# Altium schematic symbol library DM1097_SchLib.SCHLIB: 93 symbols (part 3 of 4)
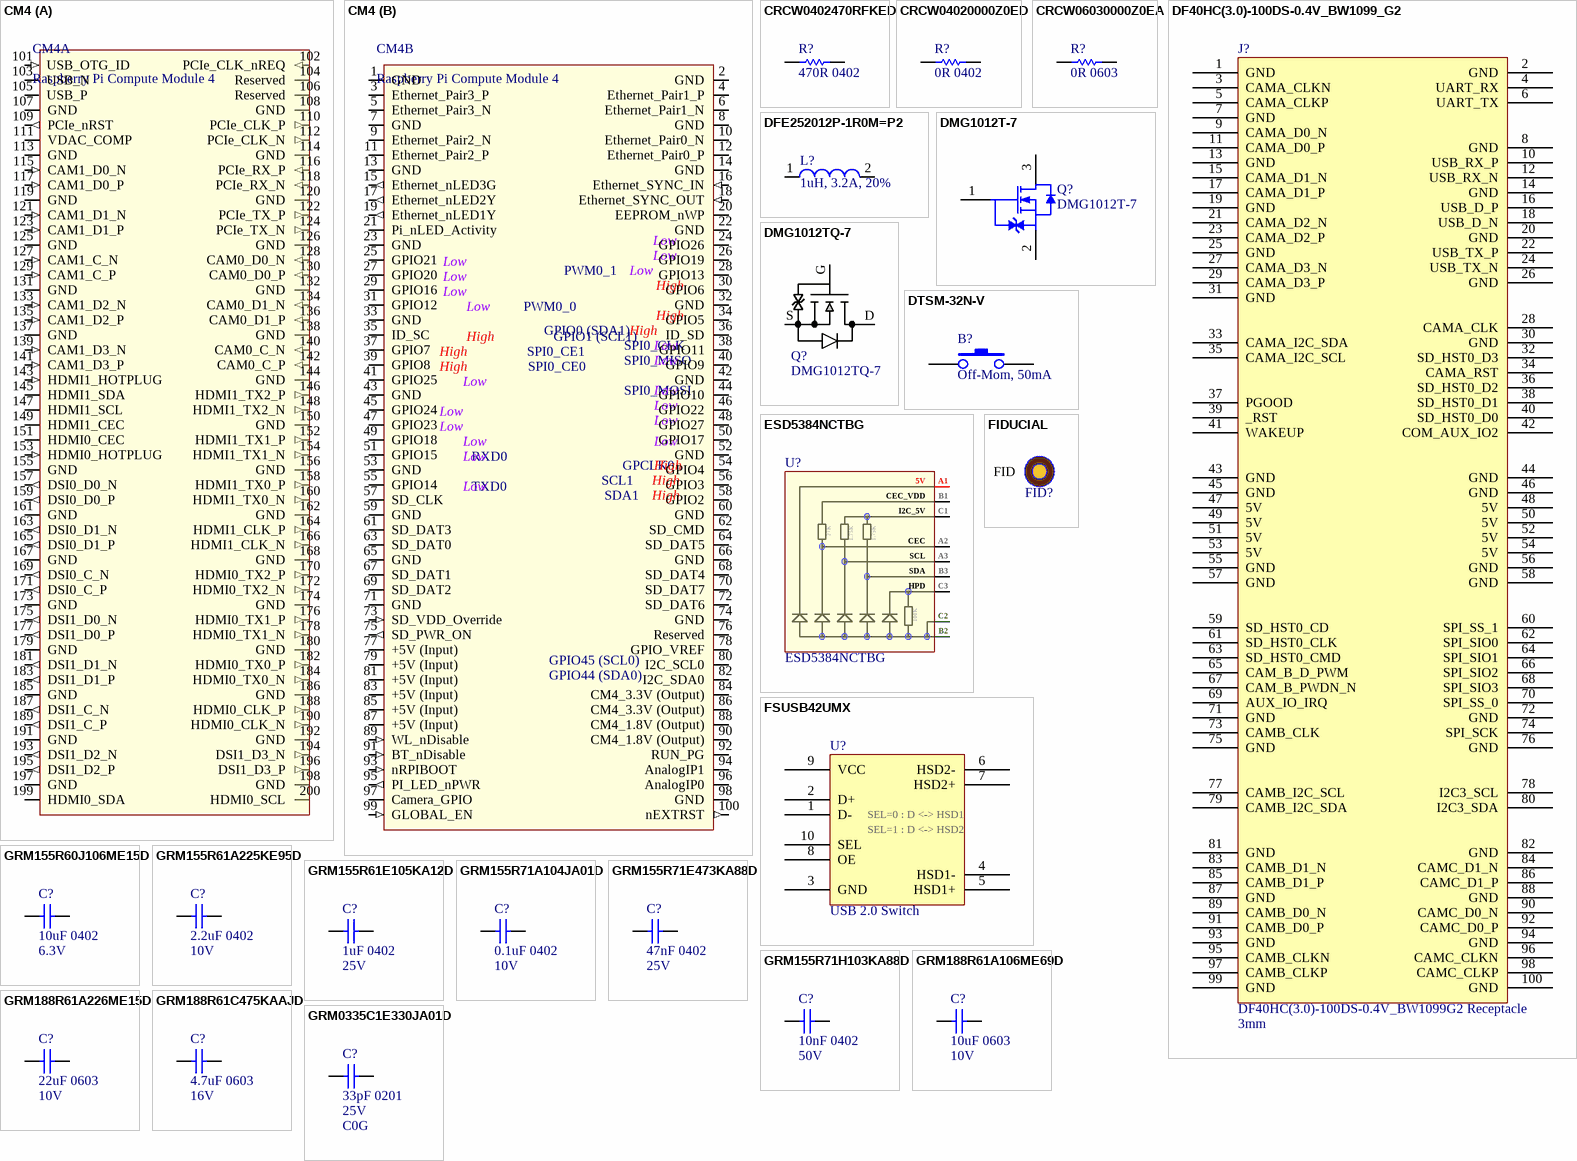
[diagram p6: symbols CM4 to GRM0335C1E330JA01D]

## GRM155R71H103KA88D
designator C?, comment 10nF 0402  Voltage Rating: 50V
CAP CER 10000PF 50V X7R 0402; Manufacturer 1: Murata; Manufacturer Part Number 1: GRM155R71H103KA88D; Material: Ceramic; Tolerance: 10%; Voltage: 25V; Supplier 1: Digi-Key; Stock 1: 6923572; Pricing 1: 1=0.10000, 10=0.03800, 100=0.01690, 500=0.01208, 1000=0.00949, 2500=0.00862, 5000=0.00794 (USD); RoHS: Yes; Mount: Surface Mount; Case/Package: 0402; Number of Pins: 2; Case Code (Metric): 1005; Case Code (Imperial): 0402; Min Operating Temperature: -55°C; Max Operating Temperature: 125°C; Capacitance: 10nF; Packaging: Tape and Reel; Termination: SMD/SMT; Voltage Rating (DC): 50V; Package Quantity: 1; Dielectric: X7R; Length: 1mm; Height: 0.5mm; Width: 0.02inch; Thickness: 0.022inch; Depth: 0.5mm; Radiation Hardening: No; REACH SVHC: No SVHC; Lead Free: Lead Free; ComponentLink1URL: https://datasheet.ciiva.com/129/product-129810.pdf?src-supplier=Digi-Key; ComponentLink1Description: https://datasheet.ciiva.com/129/product-129810.pdf?src-supplier=Digi-Key; ComponentLink2URL: https://datasheet.ciiva.com/19476/1856433-19476546.pdf?src-supplier=Jameco; ComponentLink2Description: https://datasheet.ciiva.com/19476/1856433-19476546.pdf?src-supplier=Jameco; ComponentLink3URL: https://datasheet.ciiva.com/11786/0900766b80ef921d-11786340.pdf?src-supplier=RSComponents; ComponentLink3Description: https://datasheet.ciiva.com/11786/0900766b80ef921d-11786340.pdf?src-supplier=RSComponents; ComponentLink4URL: https://datasheet.ciiva.com/18100/getdatasheetpartid-27434-18100660.pdf?src-supplier=Verical; ComponentLink4Description: https://datasheet.ciiva.com/18100/getdatasheetpartid-27434-18100660.pdf?src-supplier=Verical; ComponentLink5URL: https://datasheet.ciiva.com/22698/1747449-22698420.pdf?src-supplier=Element14; ComponentLink5Description: https://datasheet.ciiva.com/22698/1747449-22698420.pdf?src-supplier=Element14; ComponentLink6URL: https://datasheet.ciiva.com/29199/454225-da-01-en-vs-kondensator-0402-29199740.pdf?src-supplier=Conrad; ComponentLink6Description: https://datasheet.ciiva.com/29199/454225-da-01-en-vs-kondensator-0402-29199740.pdf?src-supplier=Conrad; ComponentLink7URL: https://datasheet.ciiva.com/129/grm155r71h103ka88-01-129811.pdf?src-supplier=Digi-Key; ComponentLink7Description: https://datasheet.ciiva.com/129/grm155r71h103ka88-01-129811.pdf?src-supplier=Digi-Key; ComponentLink8URL: https://datasheet.ciiva.com/129/grm155r71h103ka88-01-129812.pdf?src-supplier=Digi-Key; ComponentLink8Description: https://datasheet.ciiva.com/129/grm155r71h103ka88-01-129812.pdf?src-supplier=Digi-Key; ComponentLink9URL: https://datasheet.ciiva.com/16495/product-16495290.pdf?src-supplier=Future+Electronics; ComponentLink9Description: https://datasheet.ciiva.com/16495/product-16495290.pdf?src-supplier=Future+Electronics; ComponentLink10URL: https://datasheet.ciiva.com/5410/product-5410990.pdf?src-supplier=Mouser; ComponentLink10Description: https://datasheet.ciiva.com/5410/product-5410990.pdf?src-supplier=Mouser; Supplier 2: Mouser; Supplier 3: Arrow; Supplier Part Number 1: 490-4516-1-ND; Supplier Part Number 2: 81-GRM155R71H103KA8D; Supplier Part Number 3: GRM155R71H103KA88D
footprint CAPC0402(1005)60_L (Chip Capacitor, Body 1.0x0.5mm, Height 0.6mm, IPC High Density)
footprint CAPC0402(1005)60_M (Chip Capacitor, Body 1.0x0.5mm, Height 0.6mm, IPC Low Density)
footprint CAPC0402(1005)60_N (Chip Capacitor, Body 1.0x0.5mm, Height 0.6mm, IPC Medium Density)
pins: 1, 2

## GRM188R61A106ME69D
designator C?, comment 10uF 0603  Voltage Rating: 10V
CAP CER 10UF 10V X5R 0603 20%; Manufacturer 1: Murata; Manufacturer Part Number 1: GRM188R61A106ME69D; Material: Ceramic; Supplier 1: Digi-Key; Stock 1: 2873098; Pricing 1: 1=0.21000, 10=0.14100, 100=0.07130, 500=0.04876, 1000=0.04313 (USD); RoHS: Yes; Mount: Surface Mount; Case/Package: 0603; Weight: 0.000222oz; Case Code (Metric): 1608; Case Code (Imperial): 0603; Min Operating Temperature: -55°C; Max Operating Temperature: 85°C; Packaging: Tape and Reel; Tolerance: 20%; Capacitance: 10uF; Dielectric: X5R; Voltage Rating (DC): 10V; Package Quantity: 4000; Termination: SMD/SMT; Length: 1.6mm; Height: 0.8mm; Width: 0.8mm; Thickness: 0.035inch; Depth: 0.8mm; REACH SVHC: Unknown; Lead Free: Lead Free; ComponentLink1URL: http://www.mouser.com/ds/2/281/c02e-2905.pdf?src-supplier=Mouser; ComponentLink1Description: http://www.mouser.com/ds/2/281/c02e-2905.pdf?src-supplier=Mouser; ComponentLink2URL: http://components.arrow.com/part/dataview/0323_06119472?src-supplier=Arrow+Europe; ComponentLink2Description: http://components.arrow.com/part/dataview/0323_06119472?src-supplier=Arrow+Europe; ComponentLink3URL: http://www.farnell.com/datasheets/2048014.pdf?src-supplier=Farnell; ComponentLink3Description: http://www.farnell.com/datasheets/2048014.pdf?src-supplier=Farnell; ComponentLink4URL: http://www.farnell.com/datasheets/1872210.pdf?src-supplier=Farnell; ComponentLink4Description: http://www.farnell.com/datasheets/1872210.pdf?src-supplier=Farnell; ComponentLink5URL: http://search.murata.co.jp/Ceramy/image/img/A01X/G101/ENG/GRM188R61A106ME69-01.pdf?src-supplier=Digi-Key; ComponentLink5Description: http://search.murata.co.jp/Ceramy/image/img/A01X/G101/ENG/GRM188R61A106ME69-01.pdf?src-supplier=Digi-Key; ComponentLink6URL: http://www.farnell.com/datasheets/1872210.pdf?src-supplier=Newark; ComponentLink6Description: http://www.farnell.com/datasheets/1872210.pdf?src-supplier=Newark; ComponentLink7URL: http://www.farnell.com/datasheets/2048014.pdf?src-supplier=Element14; ComponentLink7Description: http://www.farnell.com/datasheets/2048014.pdf?src-supplier=Element14; ComponentLink8URL: http://www.farnell.com/datasheets/2048014.pdf?src-supplier=Newark; ComponentLink8Description: http://www.farnell.com/datasheets/2048014.pdf?src-supplier=Newark; Supplier Part Number 1: 490-10475-1-ND
footprint CAPC0603(1608)100_N (Chip Capacitor, Body 1.6x0.8mm, Height 1.0mm, IPC Medium Density)
footprint CAPC0603(1608)100_M (Chip Capacitor, Body 1.6x0.8mm, Height 1.0mm, IPC Low Density)
footprint CAPC0603(1608)100_L (Chip Capacitor, Body 1.6x0.8mm, Height 1.0mm, IPC High Density)
pins: 1, 2

## GRM188R61A226ME15D
designator C?, comment 22uF 0603  Voltage Rating: 10V
CAP CER 22UF 10V X5R 0603 20%; Manufacturer 1: Murata; Manufacturer Part Number 1: GRM188R61A226ME15D; Material: Ceramic; ComponentLink1URL: https://datasheet.ciiva.com/46444/1769893-46444975.pdf?src-supplier=Element14; ComponentLink1Description: https://datasheet.ciiva.com/46444/1769893-46444975.pdf?src-supplier=Element14; Supplier 1: Digi-Key; Stock 1: 984716; Pricing 1: 1=0.31000, 10=0.21500, 100=0.12160, 500=0.08584, 1000=0.07512 (USD); RoHS: Yes; Mount: Surface Mount; Case/Package: 0603; Weight: 0.000222oz; Case Code (Metric): 1608; Case Code (Imperial): 0603; Min Operating Temperature: -55°C; Max Operating Temperature: 85°C; Capacitance: 22uF; Tolerance: 20%; Packaging: Tape and Reel; Dielectric: X5R; Voltage Rating (DC): 10V; Termination: SMD/SMT; Package Quantity: 4000; Length: 1.6mm; Height: 0.8mm; Width: 0.8mm; Thickness: 0.039inch; Depth: 0.8mm; REACH SVHC: No SVHC; Lead Free: Lead Free; Supplier Part Number 1: 490-10476-1-ND
footprint CAPC0603(1608)100_N (Chip Capacitor, Body 1.6x0.8mm, Height 1.0mm, IPC Medium Density)
footprint CAPC0603(1608)100_M (Chip Capacitor, Body 1.6x0.8mm, Height 1.0mm, IPC Low Density)
footprint CAPC0603(1608)100_L (Chip Capacitor, Body 1.6x0.8mm, Height 1.0mm, IPC High Density)
pins: 1, 2

## GRM188R61C475KAAJD
designator C?, comment 4.7uF 0603  Voltage Rating: 16V
CAP CER 4.7UF 16V X5R 0603 10%; Manufacturer 1: Murata; Manufacturer Part Number 1: GRM188R61C475KAAJD; Material: Ceramic; Supplier 1: Digi-Key; Stock 1: 455058; Pricing 1: 1=0.35000, 10=0.24600, 100=0.14730, 500=0.11050, 1000=0.09331 (USD); RoHS: Yes; Mount: Surface Mount; Case/Package: 0603; Weight: 0.000222oz; Case Code (Metric): 1608; Case Code (Imperial): 0603; Min Operating Temperature: -55°C; Max Operating Temperature: 85°C; Capacitance: 4.7uF; Tolerance: 10%; Packaging: Tape and Reel; Dielectric: X5R; Termination: SMD/SMT; Voltage Rating (DC): 16V; Package Quantity: 4000; Length: 1.6mm; Height: 0.8mm; Width: 0.8mm; Thickness: 0.037inch; Depth: 0.8mm; REACH SVHC: No SVHC; Lead Free: Lead Free; ComponentLink1URL: https://datasheet.ciiva.com/14813/595grm188r61c475kaaj23-14813668.pdf?src-supplier=Arrow; ComponentLink1Description: https://datasheet.ciiva.com/14813/595grm188r61c475kaaj23-14813668.pdf?src-supplier=Arrow; Supplier 2: Digi-Key; Manufacturer 2: Murata; Manufacturer Part Number 2: GRM188R61C475KAAJD; Stock 2: 455058; Pricing 2: 1=0.35000, 10=0.24600, 100=0.14730, 500=0.11050, 1000=0.09331 (USD); Supplier 3: Digi-Key; Manufacturer 3: Murata; Manufacturer Part Number 3: GRM188R61C475KAAJD; Stock 3: 452000; Pricing 3: 4000=0.07259, 8000=0.06832, 12000=0.06619, 28000=0.06405 (USD); Supplier Part Number 1: 490-10481-1-ND; Supplier Part Number 2: 490-10481-6-ND; Supplier Part Number 3: 490-10481-2-ND
footprint CAPC0603(1608)100_N (Chip Capacitor, Body 1.6x0.8mm, Height 1.0mm, IPC Medium Density)
footprint CAPC0603(1608)100_M (Chip Capacitor, Body 1.6x0.8mm, Height 1.0mm, IPC Low Density)
footprint CAPC0603(1608)100_L (Chip Capacitor, Body 1.6x0.8mm, Height 1.0mm, IPC High Density)
pins: 1, 2

## GRM0335C1E330JA01D
designator C?, comment 33pF 0201  Voltage Rating: 25V  Dielectric: C0G
CAP CER 33PF 25V C0G/NP0 0201; Manufacturer 1: Murata; Manufacturer Part Number 1: GRM0335C1E330JA01D; Tolerance: 5%; Supplier 1: Digi-Key; Stock 1: 1107200; Pricing 1: 1=0.10000, 10=0.01500, 100=0.00680, 500=0.00484, 1000=0.00380, 2500=0.00345, 5000=0.00317 (USD); RoHS: Yes; Mount: Surface Mount; Case/Package: 0201; Case Code (Metric): 0603; Case Code (Imperial): 0201; Min Operating Temperature: -55°C; Max Operating Temperature: 125°C; Capacitance: 33pF; Packaging: Tape and Reel; Package Quantity: 15000; Voltage Rating (DC): 25V; Termination: SMD/SMT; Length: 0.6mm; Height: 0.3mm; Width: 0.012inch; Thickness: 0.013inch; Depth: 0.3mm; REACH SVHC: No SVHC; Lead Free: Lead Free; ComponentLink1URL: https://datasheet.ciiva.com/29538/partnumbering-e-01-29538933.pdf?src-supplier=Digi-Key; ComponentLink1Description: https://datasheet.ciiva.com/29538/partnumbering-e-01-29538933.pdf?src-supplier=Digi-Key; Supplier 2: Mouser; Supplier Part Number 2: 81-GRM0335C1E330JA1D; Supplier Part Number 1: 490-10678-1-ND
footprint CAPC0201(0603)33_L (Chip Capacitor, Body 0.6x0.3mm, Height 0.33mm, IPC High Density)
footprint CAPC0201(0603)33_M (Chip Capacitor, Body 0.6x0.3mm, Height 0.33mm, IPC Low Density)
footprint CAPC0201(0603)33_N (Chip Capacitor, Body 0.6x0.3mm, Height 0.33mm, IPC Medium Density)
pins: 1, 2

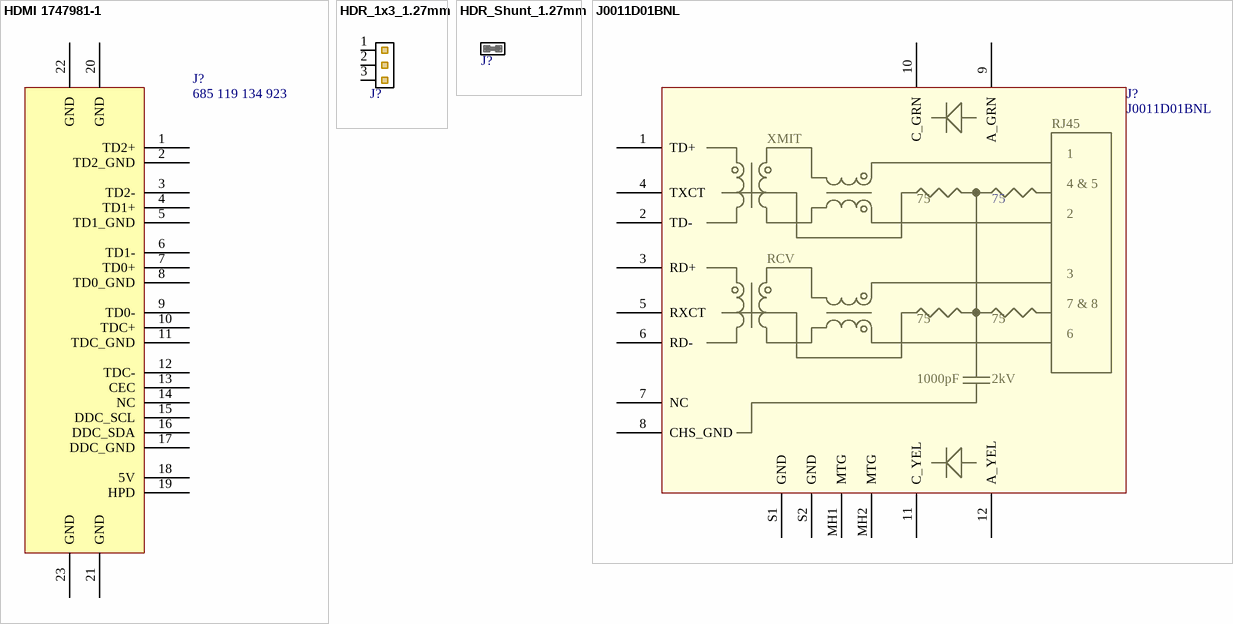
[diagram p3: symbols HDMI 1747981-1 to J0011D01BNL]

## HDMI 1747981-1
designator J?, comment 685 119 134 923
HDMI Connector; Manufacturer 1: Wurth; Manufacturer Part Number 1: 685 119 134 923
footprint CONN_HDMI_RA
pins: 1 TD2+, 2 TD2_GND, 3 TD2-, 4 TD1+, 5 TD1_GND, 6 TD1-, 7 TD0+, 8 TD0_GND, 9 TD0-, 10 TDC+, 11 TDC_GND, 12 TDC-, 13 CEC, 14 NC, 15 DDC_SCL, 16 DDC_SDA, 17 DDC_GND, 18 5V, 19 HPD, 20 GND, 21 GND, 22 GND, 23 GND
2 alternate drawings of the same symbol

## HDR_1x3_1.27mm
designator J?, comment GRPB031VWVN-RC  (value not drawn)
Header, 3-Leads, Body 3.81x2.14mm, Pitch 1.27mm (SLIN-GRPB031VWVN-RC_V)
footprint CON_HDR_1.27mm_3pin_PTH (Header, 3-Leads, Body 3.81x2.14mm, Pitch 1.27mm (SLIN-GRPB031VWVN-RC_V))
pins: 1, 2, 3

## HDR_Shunt_1.27mm
designator J?, comment 1.27mm hdr shunt  (value not drawn)
CONN SHUNT 1.27MM BLACK (M50-1900005); Manufacturer 1: Harwin; Manufacturer Part Number 1: M50-1900005
footprint HDR_SHUNT_1.27MM (Shunt for 1.27mm headers)

## J0011D01BNL
designator J?
RJ45 Connector, Pitch 1.27 mm, 12 Position, Height 13.84 mm, Tail Length 3.3 mm, 0 to 70 degC, RoHS, Tray
footprint PULS-J0-A_V (THD, 12-Leads, Body 21.59x16.26mm, Pitch 1.27mm)
pins: 1 TD+, 1, 2 TD-, 2, 3 RD+, 4 TXCT, 5 RXCT, 6 RD-, 7 NC, 8 CHS_GND, 9 A_GRN, 10 C_GRN, 11 C_YEL, 12 A_YEL, MH1 MTG, MH2 MTG, S1 GND, S2 GND
text: RJ45; XMIT; 4 & 5; 75; RCV; 7 & 8; 1000pF; 2kV

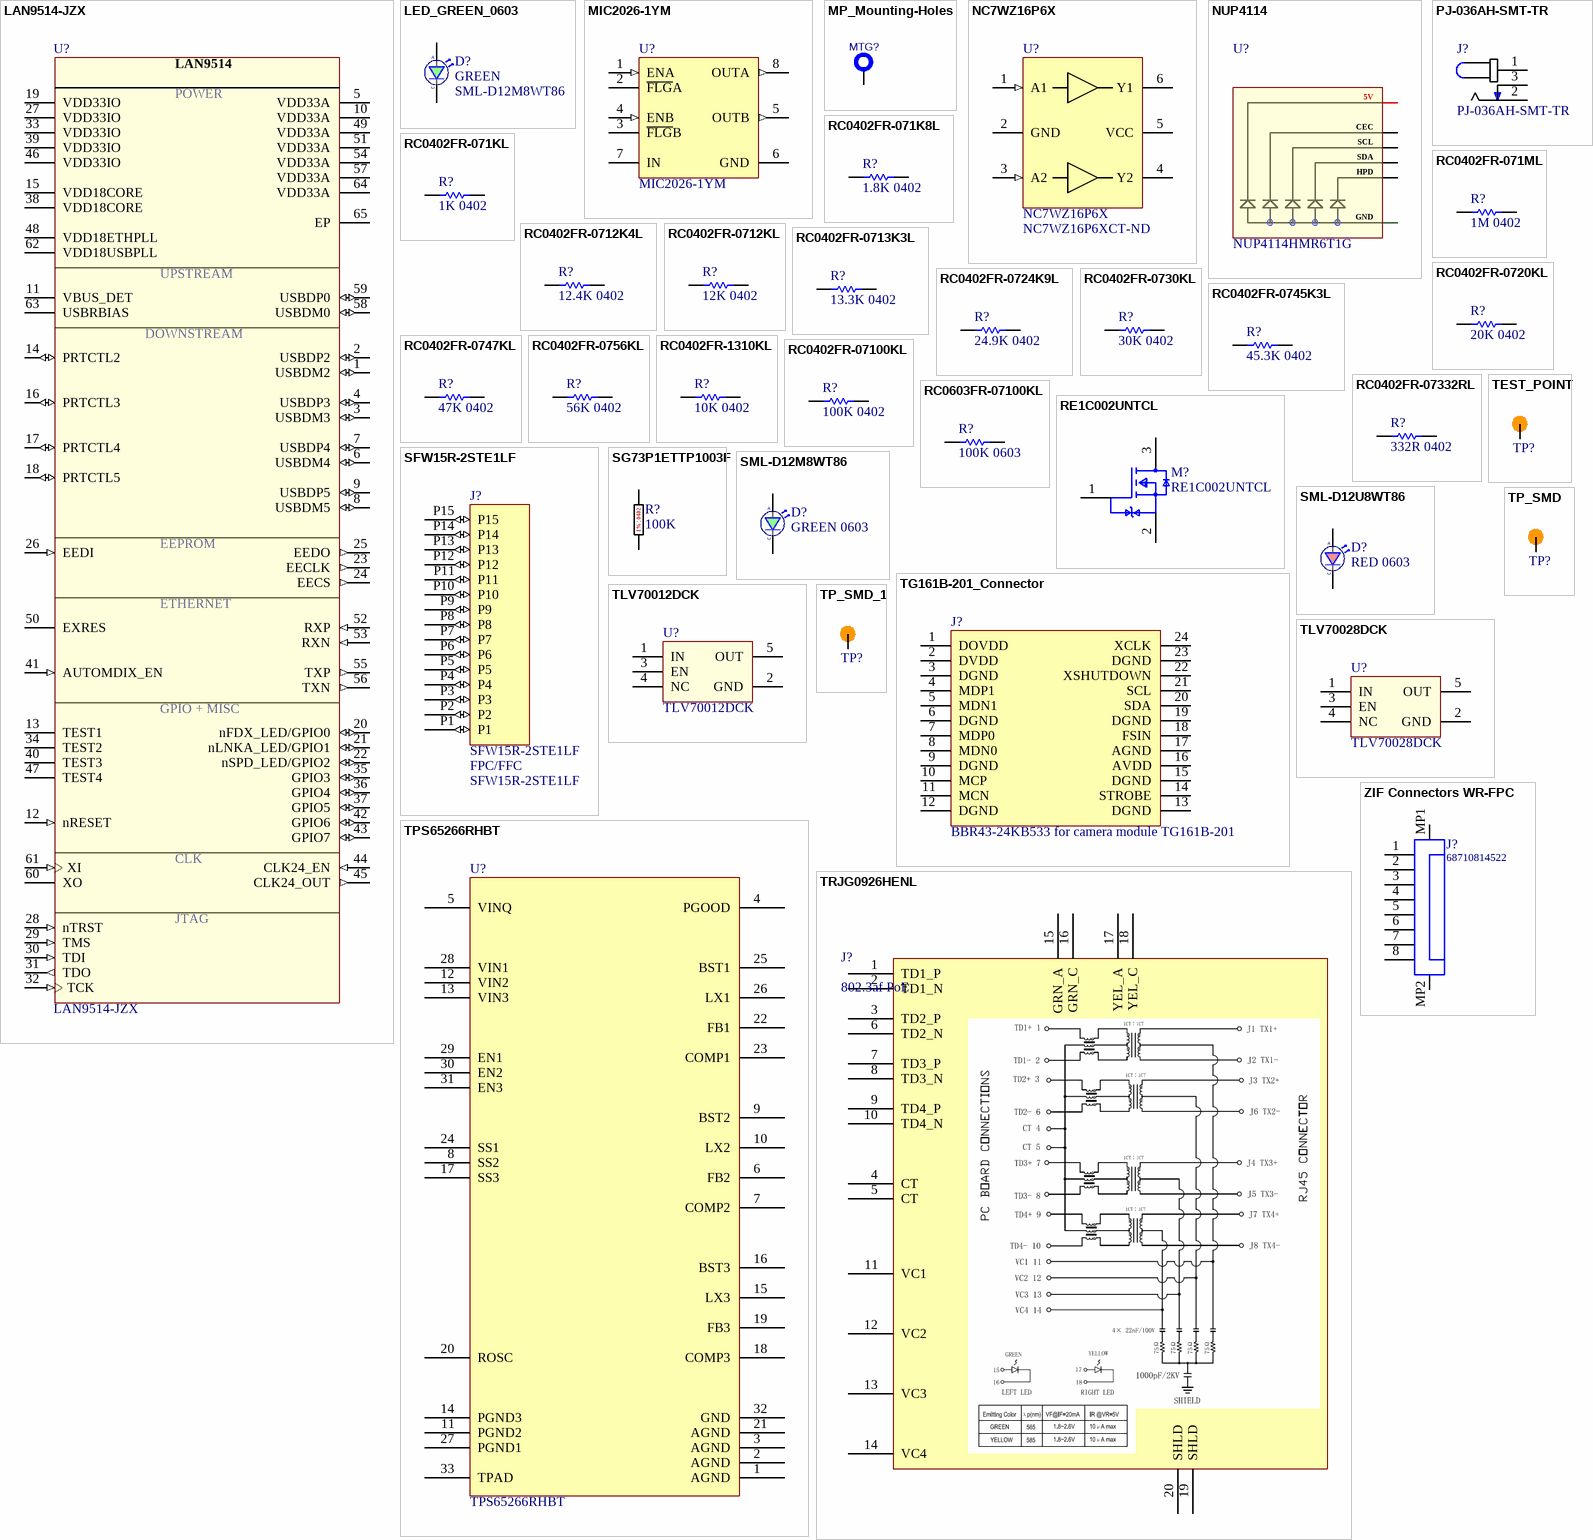
[diagram p4: symbols LAN9514-JZX to ZIF Connectors WR-FPC]

## LAN9514-JZX
designator U?
IC USB 2.0 ETHER CTRLR 64QFN Ethernet Bridge, USB to Ethernet USB 2.0, 10/100 Base-T/TX PHY USB Interface 64-QFN (9x9); Manufacturer 1: Microchip; Operating Supply Current: 288mA; Min Supply Voltage: 3V; Max Supply Voltage: 3.6V; Operating Supply Voltage: 3.3V; Data Rate: 1.5Mbps; Max Power Dissipation: 951mW; Number of Ports: 5; Manufacturer Part Number 1: LAN9514-JZX; ComponentLink1Description: Manufacturer URL; ComponentLink2Description: Datasheet; ComponentLink2URL: http://ww1.microchip.com/downloads/en/DeviceDoc/9514.pdf; ComponentLink3URL: http://ww1.microchip.com/downloads/en/DeviceDoc/9514.pdf; ComponentLink1URL: www.microchip.com/; ComponentLink3Description: Package Specification; Supplier 1: Digi-Key; Stock 1: 4064; Pricing 1: 1=5.71000, 25=4.75880, 100=4.32600 (USD); RoHS: Yes; Case/Package: QFN; Number of Pins: 64; Weight: 0.007277oz; Contact Plating: Tin,Matte; Min Operating Temperature: 0°C; Max Operating Temperature: 70°C; Packaging: Tray; Package Quantity: 260; Interface: USB; Length: 9.1mm; Height: 0.95mm; Width: 9.1mm; Radiation Hardening: No; REACH SVHC: No SVHC; Lead Free: Lead Free; ComponentLink4URL: https://datasheet.ciiva.com/30478/0900766b811a553b-30478372.pdf?src-supplier=RSComponents; ComponentLink4Description: https://datasheet.ciiva.com/30478/0900766b811a553b-30478372.pdf?src-supplier=RSComponents; ComponentLink5URL: https://datasheet.ciiva.com/16372/lan9514-jzx-16372060.pdf?src-supplier=Future+Electronics; ComponentLink5Description: https://datasheet.ciiva.com/16372/lan9514-jzx-16372060.pdf?src-supplier=Future+Electronics; ComponentLink6URL: https://datasheet.ciiva.com/22656/1686386-22656488.pdf?src-supplier=Element14; ComponentLink6Description: https://datasheet.ciiva.com/22656/1686386-22656488.pdf?src-supplier=Element14; ComponentLink7URL: https://datasheet.ciiva.com/29305/651385-da-01-en-ic-e-ctrlr-lan9514-jzx-qfn-64-9x9-mcp-29305397.pdf?src-supplier=Conrad; ComponentLink7Description: https://datasheet.ciiva.com/29305/651385-da-01-en-ic-e-ctrlr-lan9514-jzx-qfn-64-9x9-mcp-29305397.pdf?src-supplier=Conrad; Supplier Part Number 1: 638-1087-ND; Supplier 2: Mouser; Supplier Part Number 2: 886-LAN9514-JZX
footprint LAN951x-JZX (LAN9513 or LAN9514 QFN, 64-Leads, Body 9.1x9.1mm, Pitch 0.5mm, Thermal Pad 7.3x7.3mm)
pins: 1 USBDM2 (io) "Downstream USB peripheral 2 DMINUS signal.", 2 USBDP2 (io) "Downstream USB peripheral 2 DPLUS signal.", 3 USBDM3 (io) "Downstream USB peripheral 3 DMINUS signal.", 4 USBDP3 (io) "Downstream USB peripheral 3 DPLUS signal.", 5 VDD33A (power) "Refer to the LAN9514/LAN9514i reference schematics for connection information.", 6 USBDM4 (io) "Downstream USB peripheral 4 DMINUS signal.", 7 USBDP4 (io) "Downstream USB peripheral 4 DPLUS signal.", 8 USBDM5 (io) "Downstream USB peripheral 5 DMINUS signal.", 9 USBDP5 (io) "Downstream USB peripheral 5 DPLUS signal.", 10 VDD33A (power) "Refer to the LAN9514/LAN9514i reference schematics for connection information.", 11 VBUS_DET (power) "This pin detects the state of the upstream bus power. The Hub monitors VBUS_DET to determine when to assert the USBDP0 pin's internal pull-up resistor (signaling a connect event). For bus powered hubs, this pin must be tied to VDD33IO. For self powered hubs where the device is permanently attached to a host, VBUS_DET should be pulled to VDD33IO. For other self powered applications, refer to the device reference schematic for additional connection information.", 12 nRESET (in) "This active low pin allows external hardware to reset the device.", 13 TEST1 "Used for factory testing, this pin must always be left unconnected.", 14 PRTCTL2 (io) "When used as an output, this pin enables power to downstream USB peripheral 2. When used as an input, this pin is used to sample the output signal from an external current monitor for downstream USB peripheral 2. An overcurrent condition is indicated when the signal is low.", 15 VDD18CORE (power) "1.8 V power from the internal core voltage regulator. All VDD18CORE pins must be tied together for proper operation.", 16 PRTCTL3 (io) "When used as an output, this pin enables power to downstream USB peripheral 3. When used as an input, this pin is used to sample the output signal from an external current monitor for downstream USB peripheral 3. An overcurrent condition is indicated when the signal is low.", 17 PRTCTL4 (io) "When used as an output, this pin enables power to downstream USB peripheral 4. When used as an input, this pin is used to sample the output signal from an external current monitor for downstream USB peripheral 4. An overcurrent condition is indicated when the signal is low.", 18 PRTCTL5 (io) "When used as an output, this pin enables power to downstream USB peripheral 5. When used as an input, this pin is used to sample the output signal from an external current monitor for downstream USB peripheral 5. An overcurrent condition is indicated when the signal is low.", 19 VDD33IO (power) "3.3V Power Supply for I/O Pins. Refer to the LAN9514/LAN9514i reference schematics for connection information.", 20 nFDX_LED/GPIO0 (io), 21 nLNKA_LED/GPIO1 (io), 22 nSPD_LED/GPIO2 (io), 23 EECLK (out) "This pin drives the EEPROM clock of the external EEPROM.", 24 EECS (out) "This pin drives the chip select output of the external EEPROM.", 25 EEDO (out) "This pin drives the EEDI input of the external EEPROM.", 26 EEDI (in) "This pin is driven by the EEDO output of the external EEPROM.", 27 VDD33IO (power) "3.3V Power Supply for I/O Pins. Refer to the LAN9514/LAN9514i reference schematics for connection information.", 28 nTRST (in) "This active low pin functions as the JTAG test port reset input.", 29 TMS (in) "This pin functions as the JTAG test mode select.", 30 TDI (in) "This pin functions as the JTAG data input.", 31 TDO (out) "This pin functions as the JTAG data output.", 32 TCK (in) "This pin functions as the JTAG test clock.", 33 VDD33IO (power) "3.3V Power Supply for I/O Pins. Refer to the LAN9514/LAN9514i reference schematics for connection information.", 34 TEST2 "Used for factory testing, this pin must always be connected to VSS for proper operation.", 35 GPIO3 (io) "This General Purpose I/O pin is fully programmable as either a push-pull output, an open-drain output, or a Schmitt-triggered input.", 36 GPIO4 (io) "This General Purpose I/O pin is fully programmable as either a push-pull output, an open-drain output, or a Schmitt-triggered input.", 37 GPIO5 (io) "This General Purpose I/O pin is fully programmable as either a push-pull output, an open-drain output, or a Schmitt-triggered input.", 38 VDD18CORE (power) "1.8 V power from the internal core voltage regulator. All VDD18CORE pins must be tied together for proper operation. Refer to the LAN9514/LAN9514i referenceschematics for connection information.", 39 VDD33IO (power) "3.3V Power Supply for I/O Pins. Refer to the LAN9514/LAN9514i reference schematics for connection information.", 40 TEST3 "Used for factory testing, this pin must always be connected to VDD33IO for proper operation.", 41 AUTOMDIX_EN (in) "Determines the default Auto-MDIX setting.", 42 GPIO6 (io) "This General Purpose I/O pin is fully programmable as either a push-pull output, an open-drain output, or a Schmitt-triggered input.", 43 GPIO7 (io) "This General Purpose I/O pin is fully programmable as either a push-pull output, an open-drain output, or a Schmitt-triggered input.", 44 CLK24_EN (in) "This pin enables the generation of the 24 MHz clock on the CLK_24_OUT pin.", 45 CLK24_OUT (out) "This pin outputs a 24 MHz clock that can be used a reference clock for a partner hub.", 46 VDD33IO (power) "3.3V Power Supply for I/O Pins. Refer to the LAN9514/LAN9514i reference schematics for connection information.", 47 TEST4 "Used for factory testing, this pin must always be left unconnected.", 48 VDD18ETHPLL (power) "Refer to the LAN9514/LAN9514i reference schematics for additional connection information.", 49 VDD33A (power) "Refer to the LAN9514/LAN9514i reference schematics for connection information.", 50 EXRES "Used for the internal bias circuits. Connect to an external 12.4K 1.0% resistor to ground.", 51 VDD33A (power) "Refer to the LAN9514/LAN9514i reference schematics for connection information.", 52 RXP (in) "Positive input of the Ethernet receiver. The receive data inputs may be swapped internally with transmit data outputs when Auto-MDIX is enabled.", 53 RXN (in) "Negative input of the Ethernet receiver. The receive data inputs may be swapped internally with transmit data outputs when Auto-MDIX is enabled.", 54 VDD33A (power) "Refer to the LAN9514/LAN9514i reference schematics for connection information.", 55 TXP (out) "Positive output of the Ethernet transmitter. The transmit data outputs may be swapped internally with receive data inputs when Auto-MDIX isenabled.", 56 TXN (out) "Negative output of the Ethernet transmitter. The transmit data outputs may be swapped internally with receive data inputs when Auto-MDIX is enabled.", 57 VDD33A (power) "Refer to the LAN9514/LAN9514i reference schematics for connection information.", 58 USBDM0 (io) "Upstream USB DMINUS signal.", 59 USBDP0 (io) "Upstream USB DPLUS signal.", 60 XO "External 25 MHz crystal output.", 61 XI (in) "External 25 MHz crystal input.", 62 VDD18USBPLL (power) "Refer to the LAN9514/LAN9514i reference schematics for additional connection information.", 63 USBRBIAS "Used for setting HS transmit current level and onchip termination impedance. Connect to an external 12K 1.0% resistor to ground.", 64 VDD33A (power) "Refer to the LAN9514/LAN9514i reference schematics for connection information.", 65 EP (power) "Exposed pad must be connected to VSS."
text: LAN9514; POWER; UPSTREAM; DOWNSTREAM; EEPROM; ETHERNET; GPIO + MISC; CLK; JTAG

## LED_GREEN_0603
designator D?, comment GREEN  Manufacturer Part Number: SML-D12M8WT86
LED GREEN DIFFUSED 0603 SMD; Manufacturer: Rohm; Colour: Green,Yellow; Lens Colour: White,Clear,Diffused; Lens Style: Diffused,Colorless,Rectangular; Forward Current: 20mA; Forward Voltage: 2.2V; Luminous Intensity: 25mcd; Dominant Wavelength: 572nm; Number of LEDs: 1; Viewing Angle: 160°; Supplier 1: Mouser; Stock 1: 109326; Pricing 1: 1=0.32, 10=0.216, 50=0.216, 100=0.09, 1000=0.062, 10000=0.041 (USD); Mount: Surface Mount; Case/Package: 0603; Number of Pins: 2; Case Code (Metric): 1608; Case Code (Imperial): 0603; Min Operating Temperature: -40°C; Max Operating Temperature: 85°C; Packaging: Tape and Reel; Wavelength: 572nm; Illumination Colour: Green; Package Quantity: 1; Test Current: 20mA; Lens Transparency: Diffused; Length: 1.6mm; Height: 0.65mm; Width: 0.8mm; Radiation Hardening: No; REACH SVHC: Unknown; Lead Free: Lead Free; ComponentLink1URL: https://datasheet.ciiva.com/11774/0900766b80df3ada-11774260.pdf; ComponentLink1Description: https://datasheet.ciiva.com/11774/0900766b80df3ada-11774260.pdf; ComponentLink2URL: https://datasheet.ciiva.com/3161/sml-d1-3161419.pdf; ComponentLink2Description: https://datasheet.ciiva.com/3161/sml-d1-3161419.pdf; ComponentLink3URL: https://datasheet.ciiva.com/2110/sml-d1-2110396.pdf; ComponentLink3Description: https://datasheet.ciiva.com/2110/sml-d1-2110396.pdf; ComponentLink4URL: https://datasheet.ciiva.com/2110/sml-d1-2110397.pdf; ComponentLink4Description: https://datasheet.ciiva.com/2110/sml-d1-2110397.pdf; ComponentLink5URL: https://datasheet.ciiva.com/2110/sml-d1-2110398.pdf; ComponentLink5Description: https://datasheet.ciiva.com/2110/sml-d1-2110398.pdf
footprint LED_0603 (Body: 1.6 x 0.8mm, based on HSMx-C190 , C191, & C197 from Avago (Broadcom))
pins: 1 C, 2 A

## MIC2026-1YM
designator U?
IC PW DIST SW DUAL 8SOIC Power Switch/Driver 1:2 N-Channel 500mA 8-SOIC; Manufacturer: Micrel; Manufacturer 1: Microchip Micrel; Supply Voltage - Max: 5.5V; Switch Configuration: USBSwitch; Off Time (Max): 100us; On Resistance (Max): 140mOhms; Supply Current: 20uA; Supply Voltage - Min: 2.7V; On Time (Max): 5ms; Number of Outputs: 2; Interface: On/Off; On-State Resistance: 90mR; Fault Protection: Over Temperature; Output Configuration: High Side; Nominal Supply Current: 5uA; Current Rating: 1.25A; Drain to Source Resistance: 140mR; Number of Switches: Dual; On Resistance - Max: 140mOhms; Mounting Technology: SurfaceMount; RoHS: Details; Package / Case: SOIC-8; Package Description: 8-Pin Small Outline Integrated Circuit, Body 4.89 x 3.9 mm, Pitch 1.27 mm; Factory Pack Quantity: 95; Datasheet Version: 06/2010; Product Category: USBSwitchICs; Series: MIC2026; Manufacturer URL: http://www.microchip.com/; Maximum Operating Temperature: +85C; Operating Temperature Range: -40Cto+85C; Minimum Operating Temperature: -40C; Package Reference: SOIC-8; Datasheet URL: http://ww1.microchip.com/downloads/en/DeviceDoc/mic2026.pdf; Off Time - Max: 100us; On Time - Max: 5ms; Packaging: Tube; Mounting Style: SMD/SMT; Brand: Micrel; Supplier 1: Digi-Key; Manufacturer Part Number 1: MIC2026-1YM; Stock 1: 3907; Pricing 1: 1=1.03000, 25=0.86520, 100=0.78280 (USD); Mount: Surface Mount; Case/Package: SOIC; Number of Pins: 8; Min Operating Temperature: -40°C; Max Operating Temperature: 85°C; Max Output Current: 500mA; Package Quantity: 95; Max Input Voltage: 5.5V; Min Input Voltage: 2.7V; Min Supply Voltage: 2.7V; Max Supply Voltage: 5.5V; Turn-Off Delay Time: 100us; Turn-On Delay Time: 5ms; Number of Channels: 2; Length: 5mm; Height: 1.63mm; Width: 3.99mm; Radiation Hardening: No; REACH SVHC: No SVHC; Lead Free: Lead Free; ComponentLink1URL: https://datasheet.ciiva.com/15108/getdatasheetpartid-144496-15108418.pdf?src-supplier=Verical; ComponentLink1Description: https://datasheet.ciiva.com/15108/getdatasheetpartid-144496-15108418.pdf?src-supplier=Verical; ComponentLink2URL: https://datasheet.ciiva.com/1962/mic2026-1962595.pdf?src-supplier=Digi-Key; ComponentLink2Description: https://datasheet.ciiva.com/1962/mic2026-1962595.pdf?src-supplier=Digi-Key; ComponentLink3URL: https://datasheet.ciiva.com/1512/29485-1512781.pdf?src-supplier=Element14; ComponentLink3Description: https://datasheet.ciiva.com/1512/29485-1512781.pdf?src-supplier=Element14; Supplier Part Number 1: 576-2137-ND; Supplier 2: Mouser; Supplier Part Number 2: 998-MIC2026-1YM
footprint MIC2026-1YM (SOIC, 8-Leads, Body 5x4mm, Pitch 1.27mm, IPC High Density)
pins: 1 ENA (in) "Switch A Enable (Input): Logic-compatible, enable input. Active high (-1) or active low (-2).", 2 ~{FLG}A (oc) "Fault Flag A (Output): Active-low, open-drain output. Indicates overcurrent or thermal shutdown conditions. Overcurrent conditions must last longer than tD in order to assert FLGA.", 3 ~{FLG}B (oc) "Fault Flag B (Output): Active-low, open-drain output. Low indicates overcurrent or thermal shutdown conditions. Overcurrent conditions must last longer than tD in order to assert FLGB.", 4 ENB (in) "Switch B Enable (Input): Logic-compatible enable input. Active-high (-1) or active-low (-2).", 5 OUTB (out) "Switch B (Output)", 6 GND (power) "Ground", 7 IN (power) "Input: Switch and logic supply input.", 8 OUTA (out) "Switch A (Output)"

## MP_Mounting-Holes
designator MTG?  (no BOM)
=CurrentFootprint; B - Value: Not a Part; A - Level: 0
footprint 9774030243R MATING PAD (Mating pad for 9774030243R Standoff)
footprint MOUNTING_HOLE_M1.4 (M1.4 screw footprint. 1.5mm dia hole, 3mm dia ring,)
footprint MOUNTING_HOLE_M2.5 (2.7mm dia hole, 5.5mm dia ring)
footprint MOUNTING_HOLE_M2 (M1.4 screw footprint. 2.1 mm dia hole, 4.75mm dia ring,)
pins: 1

## NC7WZ16P6X
designator U?  Supplier Part Number 1: NC7WZ16P6XCT-ND
NC7WZ16P6X 6−Lead SC70, EIAJ SC−88a, 1.25 mm Wide; Manufacturer 1: ON Semiconductor / Fairchild; Min Supply Voltage: 1.65V; Max Supply Voltage: 5.5V; Logic Function: Buffer,Inverting; Low Level Output Current: 32mA; Polarity: Non-Inverting; High Level Output Current: -32mA; Propagation Delay: 3.8ns; Number of Elements: 2; Number of Bits per Element: 1; Max Power Dissipation: 180mW; Turn-On Delay Time: 10.6ns; Quiescent Current: 1uA; Supplier 1: Digi-Key; Manufacturer Part Number 1: NC7WZ16P6X; Stock 1: 54267; Pricing 1: 1=0.44000, 10=0.32600, 100=0.18480, 500=0.12238, 1000=0.09382 (USD); RoHS: Yes; Mount: Surface Mount; Case/Package: SC; Number of Pins: 6; Weight: 0.028g; Contact Plating: Tin,Matte; Min Operating Temperature: -40°C; Max Operating Temperature: 125°C; Packaging: Tape and Reel; Package Quantity: 3000; Number of Input Lines: 2; Number of Output Lines: 2; Number of Channels: 2; Number of Bits: 2; Number of Inputs: 2; Number of Outputs: 2; Number of Circuits: 2; Termination: SMD/SMT; Length: 2mm; Height: 1mm; Width: 1.25mm; Radiation Hardening: No; Lead Free: Lead Free; REACH SVHC: No SVHC; ComponentLink1URL: https://datasheet.ciiva.com/5701/1725615-5701889.pdf?src-supplier=Farnell; ComponentLink1Description: https://datasheet.ciiva.com/5701/1725615-5701889.pdf?src-supplier=Farnell; ComponentLink2URL: https://datasheet.ciiva.com/15094/getdatasheetpartid-92041-15094657.pdf?src-supplier=Verical; ComponentLink2Description: https://datasheet.ciiva.com/15094/getdatasheetpartid-92041-15094657.pdf?src-supplier=Verical; ComponentLink3URL: https://datasheet.ciiva.com/27051/1028128-27051265.pdf?src-supplier=Jameco; ComponentLink3Description: https://datasheet.ciiva.com/27051/1028128-27051265.pdf?src-supplier=Jameco; ComponentLink4URL: https://datasheet.ciiva.com/8260/nc7wz16-8260101.pdf?src-supplier=Avnet; ComponentLink4Description: https://datasheet.ciiva.com/8260/nc7wz16-8260101.pdf?src-supplier=Avnet; ComponentLink5URL: https://datasheet.ciiva.com/17332/nc7wz16-17332853.pdf?src-supplier=Future+Electronics; ComponentLink5Description: https://datasheet.ciiva.com/17332/nc7wz16-17332853.pdf?src-supplier=Future+Electronics; ComponentLink6URL: https://datasheet.ciiva.com/8260/nc7wz16-8260105.pdf?src-supplier=Avnet; ComponentLink6Description: https://datasheet.ciiva.com/8260/nc7wz16-8260105.pdf?src-supplier=Avnet; ComponentLink7URL: https://datasheet.ciiva.com/26096/nc7wz16-26096508.pdf?src-supplier=Avnet+Europe; ComponentLink7Description: https://datasheet.ciiva.com/26096/nc7wz16-26096508.pdf?src-supplier=Avnet+Europe; ComponentLink8URL: https://datasheet.ciiva.com/1832/nc7wz16-1832237.pdf?src-supplier=Digi-Key; ComponentLink8Description: https://datasheet.ciiva.com/1832/nc7wz16-1832237.pdf?src-supplier=Digi-Key; ComponentLink9URL: https://datasheet.ciiva.com/7971/1725615-7971037.pdf?src-supplier=Element14; ComponentLink9Description: https://datasheet.ciiva.com/7971/1725615-7971037.pdf?src-supplier=Element14; ComponentLink10URL: https://datasheet.ciiva.com/1832/nc7wz16-1832238.pdf?src-supplier=Digi-Key; ComponentLink10Description: https://datasheet.ciiva.com/1832/nc7wz16-1832238.pdf?src-supplier=Digi-Key; ComponentLink11URL: https://datasheet.ciiva.com/1832/nc7wz16-1832239.pdf?src-supplier=Digi-Key; ComponentLink11Description: https://datasheet.ciiva.com/1832/nc7wz16-1832239.pdf?src-supplier=Digi-Key
footprint SC-70 (NC7WZ07P6X - SOT23, 6-Leads, Body 2.00x2.10mm, Pitch 0.65mm, IPC Medium Density)
pins: 1 A1 (in) "Input", 2 GND (power) "Ground", 3 A2 (in) "Input", 4 Y2 (oc) "Output", 5 VCC (power) "Supply Voltage", 6 Y1 (oc) "Output"

## NUP4114
designator U?, comment NUP4114HMR6T1G
TVS DIODE 3VWM 9WLCSP; Manufacturer 1: OnSemi; Manufacturer Part Number 1: NUP4114HMR6T1G
footprint SOT23-6
pins: 1 A2, 2 B2, 3 A3, 4 B3, 5 A1, 6 1
text: 5V; CEC; SCL; SDA; HPD; GND

## PJ-036AH-SMT-TR
designator J?
CONN PWR JACK 2X5.5MM SOLDER; Manufacturer 1: CUI; Current Rating: 5A; Gender: Male; Shielding: Unshielded; Voltage Rating: 24V; Insulation Resistance: 100MR; Number of Conductors: 2; Supplier 1: Digi-Key; Manufacturer Part Number 1: PJ-036AH-SMT-TR; Stock 1: 14194; Pricing 1: 1=1.39000, 10=1.26100, 25=1.18400, 50=1.13260, 100=1.08110 (USD); RoHS: Yes; Mount: Surface Mount; Case/Package: SMD/SMT; Color: Black; Contact Material: Brass; Contact Plating: Silver; Housing Color: Black; Housing Material: Thermoplastic; Min Operating Temperature: -25°C; Max Operating Temperature: 85°C; Package Quantity: 1000; Termination: SMD/SMT; Connector Type: Jack; Contact Gender: Male; Packaging: Tape and Reel; Orientation: Horizontal; Lead Free: Lead Free; Flammability Rating: UL94 V-0; ComponentLink1URL: http://www.mouser.com/ds/2/670/pj-036ah-smt-516063.pdf?src-supplier=Mouser; ComponentLink1Description: http://www.mouser.com/ds/2/670/pj-036ah-smt-516063.pdf?src-supplier=Mouser; ComponentLink2URL: http://www.cui.com/Product/Resource/FuturePDF/PJ-036AH-SMT.pdf?src-supplier=Future+Electronics; ComponentLink2Description: http://www.cui.com/Product/Resource/FuturePDF/PJ-036AH-SMT.pdf?src-supplier=Future+Electronics; ComponentLink3URL: https://www.cui.com/product/resource/digikeypdf/pj-036ah-smt-tr.pdf?src-supplier=Digi-Key; ComponentLink3Description: https://www.cui.com/product/resource/digikeypdf/pj-036ah-smt-tr.pdf?src-supplier=Digi-Key; Supplier Part Number 1: CP-036AHPJCT-ND; Supplier 2: Mouser; Manufacturer 2: CUI; Manufacturer Part Number 2: PJ-036AH-SMT-TR; Stock 2: 2079; Pricing 2: 1=1.36000, 10=1.20000, 25=1.13000, 50=1.08000, 100=1.03000, 200=0.93600, 400=0.84300, 1000=0.74900, 2400=0.67900, 10000=0.67900 (USD); ComponentLink4URL: http://datasheet.octopart.com/PJ-036AH-SMT-TR-CUI-datasheet-100142517.pdf?src-supplier=CUI; ComponentLink4Description: http://datasheet.octopart.com/PJ-036AH-SMT-TR-CUI-datasheet-100142517.pdf?src-supplier=CUI; ComponentLink5URL: http://datasheet.octopart.com/PJ-036AH-SMT-TR-CUI-datasheet-103764787.pdf?src-supplier=CUI; ComponentLink5Description: http://datasheet.octopart.com/PJ-036AH-SMT-TR-CUI-datasheet-103764787.pdf?src-supplier=CUI; ComponentLink6URL: http://datasheet.octopart.com/PJ-036AH-SMT-TR-CUI-datasheet-103110338.pdf?src-supplier=Electro+Sonic; ComponentLink6Description: http://datasheet.octopart.com/PJ-036AH-SMT-TR-CUI-datasheet-103110338.pdf?src-supplier=Electro+Sonic; ComponentLink7URL: http://datasheet.octopart.com/PJ-036AH-SMT-TR-CUI-datasheet-13308170.pdf?src-supplier=Future+Electronics; ComponentLink7Description: http://datasheet.octopart.com/PJ-036AH-SMT-TR-CUI-datasheet-13308170.pdf?src-supplier=Future+Electronics; ComponentLink8URL: http://datasheet.octopart.com/PJ-036AH-SMT-TR-CUI-datasheet-98439734.pdf?src-supplier=Future+Electronics; ComponentLink8Description: http://datasheet.octopart.com/PJ-036AH-SMT-TR-CUI-datasheet-98439734.pdf?src-supplier=Future+Electronics; ComponentLink9URL: http://datasheet.octopart.com/PJ-036AH-SMT-TR-CUI-datasheet-100337374.pdf?src-supplier=Future+Electronics; ComponentLink9Description: http://datasheet.octopart.com/PJ-036AH-SMT-TR-CUI-datasheet-100337374.pdf?src-supplier=Future+Electronics; ComponentLink10URL: http://datasheet.octopart.com/PJ-036AH-SMT-TR-CUI-datasheet-102985011.pdf?src-supplier=Future+Electronics; ComponentLink10Description: http://datasheet.octopart.com/PJ-036AH-SMT-TR-CUI-datasheet-102985011.pdf?src-supplier=Future+Electronics; Supplier Part Number 2: 490-PJ-036AH-SMT-TR
footprint CUI_PJ-036AH-SMT-TR (2.0 x 6.3 mm, 5.0 A, Horizontal, Surface Mount (SMT), Dc Power Jack Connector)
pins: 1, 2, 3

## RC0402FR-071K8L
designator R?, comment 1.8K 0402
RES SMD 1.8K OHM 1% 1/16W 0402; Manufacturer 1: Yageo; Manufacturer Part Number 1: RC0402FR-071K8L; Resistance: 1.8kR; Temperature Coefficient: 100ppm/°C; Power Rating: 63mW; Voltage Rating: 50V; Supplier 1: Digi-Key; Stock 1: 1041820; Pricing 1: 1=0.10000, 10=0.01600, 100=0.00640, 1000=0.00289, 2500=0.00251, 5000=0.00207 (USD); RoHS: Yes; Case/Package: 0402; Case Code (Imperial): 0402; Case Code (Metric): 1005; Min Operating Temperature: -55°C; Max Operating Temperature: 155°C; Tolerance: 1%; Packaging: Tape and Reel; Composition: Thick Film; Package Quantity: 1; Termination: SMD/SMT; Number of Terminations: 2; Max Power Dissipation: 63mW; Military Standard: Not; Features: Moisture Resistant; Working Voltage: 50V; Length: 1mm; Height: 0.016inch; Width: 0.02inch; Depth: 0.5mm; Lead Free: Lead Free; REACH SVHC: Unknown; ComponentLink1URL: https://datasheet.ciiva.com/11819/0900766b80c66297-11819472.pdf?src-supplier=RSComponents; ComponentLink1Description: https://datasheet.ciiva.com/11819/0900766b80c66297-11819472.pdf?src-supplier=RSComponents; ComponentLink2URL: https://datasheet.ciiva.com/2453/pyu-r-int-thick-7-2453530.pdf?src-supplier=Digi-Key; ComponentLink2Description: https://datasheet.ciiva.com/2453/pyu-r-int-thick-7-2453530.pdf?src-supplier=Digi-Key; ComponentLink3URL: https://datasheet.ciiva.com/7849/1018594-7849868.pdf?src-supplier=Element14; ComponentLink3Description: https://datasheet.ciiva.com/7849/1018594-7849868.pdf?src-supplier=Element14; ComponentLink4URL: https://datasheet.ciiva.com/16744/pyu-rc0402-51-rohs-l-6-r-16744223.pdf?src-supplier=Future+Electronics; ComponentLink4Description: https://datasheet.ciiva.com/16744/pyu-rc0402-51-rohs-l-6-r-16744223.pdf?src-supplier=Future+Electronics; ComponentLink5URL: https://datasheet.ciiva.com/7849/1018594-7849867.pdf?src-supplier=Element14; ComponentLink5Description: https://datasheet.ciiva.com/7849/1018594-7849867.pdf?src-supplier=Element14; ComponentLink6URL: https://datasheet.ciiva.com/12667/pyu-rc0402-51-rohs-l-6-r-12667431.pdf?src-supplier=Mouser; ComponentLink6Description: https://datasheet.ciiva.com/12667/pyu-rc0402-51-rohs-l-6-r-12667431.pdf?src-supplier=Mouser; ComponentLink7URL: https://datasheet.ciiva.com/2453/pyu-r-int-thick-7-2453529.pdf?src-supplier=Digi-Key; ComponentLink7Description: https://datasheet.ciiva.com/2453/pyu-r-int-thick-7-2453529.pdf?src-supplier=Digi-Key; ComponentLink8URL: https://datasheet.ciiva.com/2453/pyu-r-int-thick-7-2453531.pdf?src-supplier=Digi-Key; ComponentLink8Description: https://datasheet.ciiva.com/2453/pyu-r-int-thick-7-2453531.pdf?src-supplier=Digi-Key; Supplier 2: Mouser; Supplier Part Number 2: 603-RC0402FR-071K8L; Supplier Part Number 1: 311-1.80KLRCT-ND
footprint RESC0402(1005)_L (Chip Resistor, Body 1.0x0.5mm, IPC High Density)
footprint RESC0402(1005)_M (Chip Resistor, Body 1.0x0.5mm, IPC Low Density)
footprint RESC0402(1005)_N (Chip Resistor, Body 1.0x0.5mm, IPC Medium Density)
pins: 1, 2

## RC0402FR-071KL
designator R?, comment 1K 0402
RES SMD 1K OHM 1% 1/16W 0402 1 kOhms ±1% 0.063W, 1/16W Chip Resistor 0402 (1005 Metric) Moisture Resistant Thick Film; Manufacturer 1: Yageo; Manufacturer Part Number 1: RC0402FR-071KL; Temperature Coefficient: 100ppm/°C; Power Rating: 62.5mW; Voltage Rating (DC): 50V; Resistance: 1kR; RoHS: Yes; Number of Pins: 2; Case Code (Imperial): 0402; Case Code (Metric): 1005; Min Operating Temperature: -55°C; Max Operating Temperature: 155°C; Packaging: Tape and Reel; Composition: Thick Film; Voltage Rating: 50V; Military Standard: Not; Termination: SMD/SMT; Length: 1mm; Height: 0.32mm; Width: 0.5mm; Depth: 0.5mm; Lead Free: Lead Free; REACH SVHC: Unknown; ComponentLink1URL: https://datasheet.ciiva.com/11819/0900766b80c66297-11819477.pdf?src-supplier=RSComponents; ComponentLink1Description: https://datasheet.ciiva.com/11819/0900766b80c66297-11819477.pdf?src-supplier=RSComponents; ComponentLink2URL: https://datasheet.ciiva.com/12666/pyu-rc0402-51-rohs-l-6-r-12666741.pdf?src-supplier=Mouser; ComponentLink2Description: https://datasheet.ciiva.com/12666/pyu-rc0402-51-rohs-l-6-r-12666741.pdf?src-supplier=Mouser; ComponentLink3URL: https://datasheet.ciiva.com/17063/pyu-rc0402-51-rohs-l-6-r-17063193.pdf?src-supplier=Future+Electronics; ComponentLink3Description: https://datasheet.ciiva.com/17063/pyu-rc0402-51-rohs-l-6-r-17063193.pdf?src-supplier=Future+Electronics; ComponentLink4URL: https://datasheet.ciiva.com/22747/1018594-22747513.pdf?src-supplier=Element14; ComponentLink4Description: https://datasheet.ciiva.com/22747/1018594-22747513.pdf?src-supplier=Element14; ComponentLink5URL: https://datasheet.ciiva.com/7849/1018594-7849869.pdf?src-supplier=Element14; ComponentLink5Description: https://datasheet.ciiva.com/7849/1018594-7849869.pdf?src-supplier=Element14; ComponentLink6URL: https://datasheet.ciiva.com/7983/1018594-7983502.pdf?src-supplier=Element14; ComponentLink6Description: https://datasheet.ciiva.com/7983/1018594-7983502.pdf?src-supplier=Element14; ComponentLink7URL: https://datasheet.ciiva.com/7849/1018594-7849871.pdf?src-supplier=Element14; ComponentLink7Description: https://datasheet.ciiva.com/7849/1018594-7849871.pdf?src-supplier=Element14; Supplier 1: Digi-Key; Stock 1: 60695854; Pricing 1: 1=0.10000, 10=0.01600, 100=0.00670, 1000=0.00301, 2500=0.00261, 5000=0.00215 (USD); Case/Package: 0402; Tolerance: 1%; Supplier Part Number 1: 311-1.00KLRCT-ND
footprint RESC0402(1005)_L (Chip Resistor, Body 1.0x0.5mm, IPC High Density)
footprint RESC0402(1005)_M (Chip Resistor, Body 1.0x0.5mm, IPC Low Density)
footprint RESC0402(1005)_N (Chip Resistor, Body 1.0x0.5mm, IPC Medium Density)
pins: 1, 2

## RC0402FR-071ML
designator R?, comment 1M 0402
RES SMD 1M OHM 1% 1/16W 0402; Manufacturer 1: Yageo; Manufacturer Part Number 1: RC0402FR-071ML; Resistance: 1MR; Temperature Coefficient: 100ppm/°C; Power Rating: 63mW; Voltage Rating: 50V; Supplier 1: Digi-Key; Stock 1: 11406681; Pricing 1: 1=0.10000, 10=0.01500, 100=0.00600, 1000=0.00268, 2500=0.00232, 5000=0.00192 (USD); RoHS: Yes; Case/Package: 0402; Case Code (Imperial): 0402; Case Code (Metric): 1005; Min Operating Temperature: -55°C; Max Operating Temperature: 155°C; Packaging: Tape and Reel; Tolerance: 1%; Composition: Thick Film; Military Standard: Not; Termination: SMD/SMT; Length: 1mm; Height: 0.32mm; Depth: 0.5mm; Lead Free: Lead Free; REACH SVHC: Unknown; ComponentLink1URL: https://datasheet.ciiva.com/11808/0900766b80c66297-11808125.pdf?src-supplier=RSComponents; ComponentLink1Description: https://datasheet.ciiva.com/11808/0900766b80c66297-11808125.pdf?src-supplier=RSComponents; ComponentLink2URL: https://datasheet.ciiva.com/46394/1018594-46394951.pdf?src-supplier=Element14; ComponentLink2Description: https://datasheet.ciiva.com/46394/1018594-46394951.pdf?src-supplier=Element14; ComponentLink3URL: https://datasheet.ciiva.com/16741/pyu-rc0402-51-rohs-l-6-r-16741081.pdf?src-supplier=Future+Electronics; ComponentLink3Description: https://datasheet.ciiva.com/16741/pyu-rc0402-51-rohs-l-6-r-16741081.pdf?src-supplier=Future+Electronics; ComponentLink4URL: https://datasheet.ciiva.com/7849/1018594-7849882.pdf?src-supplier=Element14; ComponentLink4Description: https://datasheet.ciiva.com/7849/1018594-7849882.pdf?src-supplier=Element14; ComponentLink5URL: https://datasheet.ciiva.com/7849/1018594-7849883.pdf?src-supplier=Element14; ComponentLink5Description: https://datasheet.ciiva.com/7849/1018594-7849883.pdf?src-supplier=Element14; Supplier Part Number 1: 311-1.00MLRCT-ND; Supplier 2: Mouser; Supplier Part Number 2: 603-RC0402FR-071ML
footprint RESC0402(1005)_L (Chip Resistor, Body 1.0x0.5mm, IPC High Density)
footprint RESC0402(1005)_M (Chip Resistor, Body 1.0x0.5mm, IPC Low Density)
footprint RESC0402(1005)_N (Chip Resistor, Body 1.0x0.5mm, IPC Medium Density)
pins: 1, 2

## RC0402FR-0712K4L
designator R?, comment 12.4K 0402
RES SMD 12.4K OHM 1% 1/16W 0402; Manufacturer 1: Yageo; Manufacturer Part Number 1: RC0402FR-0712K4L; Resistance: 12.4kR; Temperature Coefficient: 100ppm/°C; Power Rating: 62.5mW; Voltage Rating: 50V; Max Power Dissipation: 63mW; Supplier 1: Digi-Key; Stock 1: 820392; Pricing 1: 1=0.10000, 10=0.01600, 100=0.00640, 1000=0.00289, 2500=0.00251, 5000=0.00207 (USD); RoHS: Yes; Case/Package: 0402; Case Code (Metric): 1005; Case Code (Imperial): 0402; Contact Plating: Tin,Matte; Min Operating Temperature: -55°C; Max Operating Temperature: 155°C; Tolerance: 1%; Packaging: Tape and Reel; Composition: Thick Film; Package Quantity: 1; Termination: SMD/SMT; Voltage Rating (DC): 50V; Number of Terminations: 2; Features: Moisture Resistant; Military Standard: Not; Length: 1mm; Height: 0.016inch; Width: 0.02inch; Depth: 0.5mm; Lead Free: Lead Free; ComponentLink1URL: https://datasheet.ciiva.com/12667/pyu-rc0402-51-rohs-l-6-r-12667111.pdf?src-supplier=Mouser; ComponentLink1Description: https://datasheet.ciiva.com/12667/pyu-rc0402-51-rohs-l-6-r-12667111.pdf?src-supplier=Mouser; ComponentLink2URL: https://datasheet.ciiva.com/28404/pyu-rc0402-51-rohs-l-6-28404636.pdf?src-supplier=Avnet+Europe; ComponentLink2Description: https://datasheet.ciiva.com/28404/pyu-rc0402-51-rohs-l-6-28404636.pdf?src-supplier=Avnet+Europe; ComponentLink3URL: https://datasheet.ciiva.com/2519/pyu-r-int-thick-7-2519090.pdf?src-supplier=Digi-Key; ComponentLink3Description: https://datasheet.ciiva.com/2519/pyu-r-int-thick-7-2519090.pdf?src-supplier=Digi-Key; ComponentLink4URL: https://datasheet.ciiva.com/2519/pyu-r-int-thick-7-2519091.pdf?src-supplier=Digi-Key; ComponentLink4Description: https://datasheet.ciiva.com/2519/pyu-r-int-thick-7-2519091.pdf?src-supplier=Digi-Key; ComponentLink5URL: https://datasheet.ciiva.com/2519/pyu-r-int-thick-7-2519092.pdf?src-supplier=Digi-Key; ComponentLink5Description: https://datasheet.ciiva.com/2519/pyu-r-int-thick-7-2519092.pdf?src-supplier=Digi-Key; ComponentLink6URL: https://datasheet.ciiva.com/8883/pyu-rc0402-51-rohs-l-6-8883191.pdf?src-supplier=Avnet; ComponentLink6Description: https://datasheet.ciiva.com/8883/pyu-rc0402-51-rohs-l-6-8883191.pdf?src-supplier=Avnet; Supplier 2: Mouser; Supplier Part Number 1: 311-12.4KLRCT-ND; Supplier Part Number 2: 603-RC0402FR-0712K4L
footprint RESC0402(1005)_L (Chip Resistor, Body 1.0x0.5mm, IPC High Density)
footprint RESC0402(1005)_M (Chip Resistor, Body 1.0x0.5mm, IPC Low Density)
footprint RESC0402(1005)_N (Chip Resistor, Body 1.0x0.5mm, IPC Medium Density)
pins: 1, 2

## RC0402FR-0712KL
designator R?, comment 12K 0402
RES SMD 12K OHM 1% 1/16W 0402 12 kOhms ±1% 0.063W, 1/16W Chip Resistor 0402 (1005 Metric) Moisture Resistant Thick Film; Manufacturer 1: Yageo; Manufacturer Part Number 1: RC0402FR-0712KL; Resistance: 12kR; Temperature Coefficient: 100ppm/°C; Power Rating: 62.5mW; Voltage Rating: 50V; Max Power Dissipation: 63mW; RoHS: Yes; Case/Package: 0402; Weight: 2.3E-05oz; Case Code (Metric): 1005; Case Code (Imperial): 0402; Min Operating Temperature: -55°C; Max Operating Temperature: 155°C; Tolerance: 1%; Packaging: Tape and Reel; Composition: Thick Film; Package Quantity: 1; Number of Terminations: 2; Military Standard: Not; Termination: SMD/SMT; Features: Moisture Resistant; Length: 1mm; Height: 0.016inch; Width: 0.02inch; Depth: 0.5mm; Lead Free: Lead Free; REACH SVHC: No SVHC; ComponentLink1URL: https://datasheet.ciiva.com/2453/pyu-r-int-thick-7-2453379.pdf?src-supplier=Digi-Key; ComponentLink1Description: https://datasheet.ciiva.com/2453/pyu-r-int-thick-7-2453379.pdf?src-supplier=Digi-Key; ComponentLink2URL: https://datasheet.ciiva.com/2453/pyu-r-int-thick-7-2453380.pdf?src-supplier=Digi-Key; ComponentLink2Description: https://datasheet.ciiva.com/2453/pyu-r-int-thick-7-2453380.pdf?src-supplier=Digi-Key; ComponentLink3URL: https://datasheet.ciiva.com/2453/pyu-r-int-thick-7-2453381.pdf?src-supplier=Digi-Key; ComponentLink3Description: https://datasheet.ciiva.com/2453/pyu-r-int-thick-7-2453381.pdf?src-supplier=Digi-Key; ComponentLink4URL: https://datasheet.ciiva.com/12577/pyu-rc0402-51-rohs-l-6-r-12577269.pdf?src-supplier=Mouser; ComponentLink4Description: https://datasheet.ciiva.com/12577/pyu-rc0402-51-rohs-l-6-r-12577269.pdf?src-supplier=Mouser; ComponentLink5URL: https://datasheet.ciiva.com/7849/1018594-7849832.pdf?src-supplier=Element14; ComponentLink5Description: https://datasheet.ciiva.com/7849/1018594-7849832.pdf?src-supplier=Element14; ComponentLink6URL: https://datasheet.ciiva.com/7849/1018594-7849833.pdf?src-supplier=Element14; ComponentLink6Description: https://datasheet.ciiva.com/7849/1018594-7849833.pdf?src-supplier=Element14; ComponentLink7URL: https://datasheet.ciiva.com/16744/pyu-rc0402-51-rohs-l-6-r-16744492.pdf?src-supplier=Future+Electronics; ComponentLink7Description: https://datasheet.ciiva.com/16744/pyu-rc0402-51-rohs-l-6-r-16744492.pdf?src-supplier=Future+Electronics; ComponentLink8URL: https://datasheet.ciiva.com/46412/1018594-46412831.pdf?src-supplier=Element14; ComponentLink8Description: https://datasheet.ciiva.com/46412/1018594-46412831.pdf?src-supplier=Element14; Supplier 1: Digi-Key; Supplier Part Number 1: 311-12.0KLRCT-ND
footprint RESC0402(1005)_L (Chip Resistor, Body 1.0x0.5mm, IPC High Density)
footprint RESC0402(1005)_M (Chip Resistor, Body 1.0x0.5mm, IPC Low Density)
footprint RESC0402(1005)_N (Chip Resistor, Body 1.0x0.5mm, IPC Medium Density)
pins: 1, 2